# EAGLE library part JST-SR_10 (library DaneGardner)
Digikey: 455-1810-1-ND
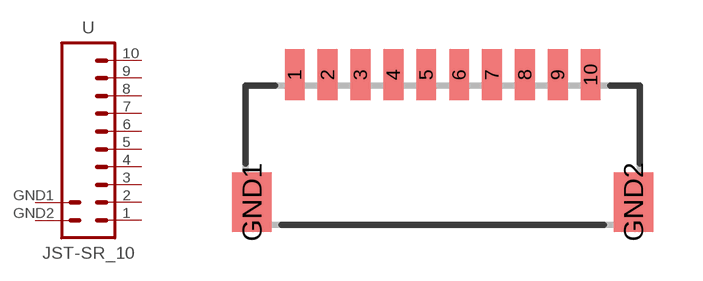
[diagram p4: symbol with the pads of JST-SR_10; footprint JST-SR_10]

Designator prefix -

## JST-SR_10  [JST-SR_10]
1  1  pas
2  2  pas
3  3  pas
4  4  pas
5  5  pas
6  6  pas
7  7  pas
8  8  pas
9  9  pas
10  10  pas
GND1  GND1  pas
GND2  GND2  pas

## Footprint JST-SR_10 (pad centres in mm)
smd 0.6 x 1.55: 1 -4.5,2; 2 -3.5,2; 3 -2.5,2; 4 -1.5,2; 5 -0.5,2; 6 0.5,2; 7 1.5,2; 8 2.5,2; 9 3.5,2; 10 4.5,2
smd 1.2 x 1.8: GND1 -5.8,-1.875; GND2 5.8,-1.875